# EAGLE library part DPDT-SWITCH (library myradio)
mini DPDT slide switch CKN9545-ND
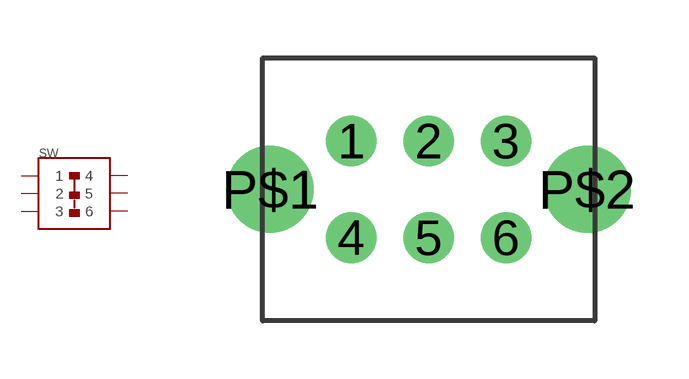
[diagram p6: symbol with the pads of DPDT-SWITCH; footprint DPDT-SWITCH]

Designator prefix SW

## DPDT-SWITCH  [DPDT-SWITCH]
1  1
2  2
3  3
4  4
5  5
6  6

## Footprint DPDT-SWITCH (pad centres in mm)
mini vertical DPDT sliding switch
drill 0.8 round: 1 2.1,1.25; 2 4.1,1.25; 3 6.1,1.25; 4 2.1,-1.25; 5 4.1,-1.25; 6 6.1,-1.25
drill 1.5 round: P$1 0,0; P$2 8.2,0